# EAGLE library part 74AC16620 (library 74ac-logic)
16-bit BUS TRANSCEIVER, 3-state
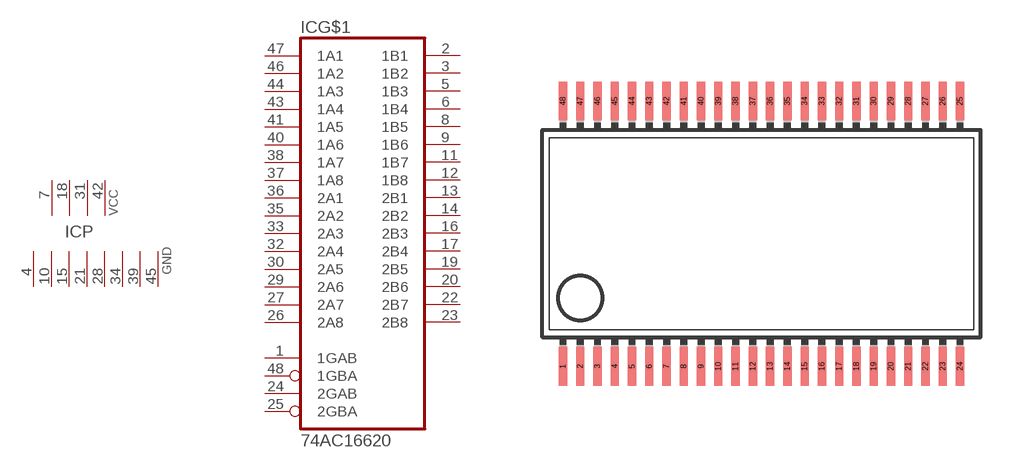
[diagram p24: symbol with the pads of SSOP48DL; footprint SSOP48DL]

Designator prefix IC; gates G$1=7416620 P=4PWR8GND

## 74AC16620  [SSOP48DL]
1  G$1:1GAB  in
2  G$1:1B1
3  G$1:1B2
4  P:GND  pwr
5  G$1:1B3
6  G$1:1B4
7  P:VCC  pwr
8  G$1:1B5
9  G$1:1B6
10  P:GND  pwr
11  G$1:1B7
12  G$1:1B8
13  G$1:2B1
14  G$1:2B2
15  P:GND  pwr
16  G$1:2B3
17  G$1:2B4
18  P:VCC  pwr
19  G$1:2B5
20  G$1:2B6
21  P:GND  pwr
22  G$1:2B7
23  G$1:2B8
24  G$1:2GAB  in
25  G$1:2GBA  in
26  G$1:2A8
27  G$1:2A7
28  P:GND  pwr
29  G$1:2A6
30  G$1:2A5
31  P:VCC  pwr
32  G$1:2A4
33  G$1:2A3
34  P:GND  pwr
35  G$1:2A2
36  G$1:2A1
37  G$1:1A8
38  G$1:1A7
39  P:GND  pwr
40  G$1:1A6
41  G$1:1A5
42  P:VCC  pwr
43  G$1:1A4
44  G$1:1A3
45  P:GND  pwr
46  G$1:1A2
47  G$1:1A1
48  G$1:1GBA  in

## Footprint SSOP48DL (pad centres in mm)
Shrink Small Outline Package
smd 0.305 x 1.422: 1 -6.985,-4.877; 2 -6.35,-4.877; 3 -5.715,-4.877; 4 -5.08,-4.877; 5 -4.445,-4.877; 6 -3.81,-4.877; 7 -3.175,-4.877; 8 -2.54,-4.877; 9 -1.905,-4.877; 10 -1.27,-4.877; 11 -0.635,-4.877; 12 0,-4.877; 13 0.635,-4.877; 14 1.27,-4.877; 15 1.905,-4.877; 16 2.54,-4.877; 17 3.175,-4.877; 18 3.81,-4.877; 19 4.445,-4.877; 20 5.08,-4.877; 21 5.715,-4.877; 22 6.35,-4.877; 23 6.985,-4.877; 24 7.62,-4.877; 25 7.62,4.877; 26 6.985,4.877; 27 6.35,4.877; 28 5.715,4.877; 29 5.08,4.877; 30 4.445,4.877; 31 3.81,4.877; 32 3.175,4.877; 33 2.54,4.877; 34 1.905,4.877; 35 1.27,4.877; 36 0.635,4.877; 37 0,4.877; 38 -0.635,4.877; 39 -1.27,4.877; 40 -1.905,4.877; 41 -2.54,4.877; 42 -3.175,4.877; 43 -3.81,4.877; 44 -4.445,4.877; 45 -5.08,4.877; 46 -5.715,4.877; 47 -6.35,4.877; 48 -6.985,4.877